# EAGLE library part TSW-106-07-S-S-LL (library TSW-106-07-S-S-LL)
CONN HEADER 6 POS .100" Source: Datasheet <http://suddendocs.samtec.com/catalog_english/tsw_th.pdf>
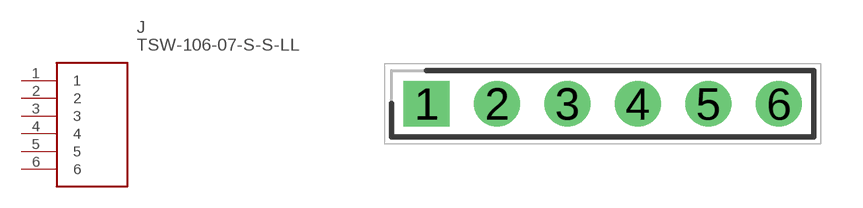
[diagram p0: symbol with the pads of HDRV6W64P254_1X6_1524X241X838P; footprint HDRV6W64P254_1X6_1524X241X838P]

Designator prefix J

## TSW-106-07-S-S-LL (Arrow_Part_Number: TSW-106-07-S-S-LL; Arrow_Price-Stock: https://www.arrow.com/en/products/tsw-106-07-s-s-ll/samtec?region=nac; Description: CONN HEADER 6 POS .100"; Height: 8.38mm; Manufacturer_Name: SAMTEC; Manufacturer_Part_Number: TSW-106-07-S-S-LL; Mouser_Part_Number: 200-TSW10607SSLL; Mouser_Price-Stock: https://www.mouser.co.uk/ProductDetail/Samtec/TSW-106-07-S-S-LL?qs=rU5fayqh%252BE10aYBI%252BwvgeA%3D%3D)  [HDRV6W64P254_1X6_1524X241X838P]
1  1
2  2
3  3
4  4
5  5
6  6

## Footprint HDRV6W64P254_1X6_1524X241X838P (pad centres in mm)
TSW-106-07-S-S-LL
drill 1.1 pad 1.65 square: 1 0,0
drill 1.1 pad 1.65: 2 2.54,0; 3 5.08,0; 4 7.62,0; 5 10.16,0; 6 12.7,0